# Altium schematic symbol library 436500501.SchLib: 2 symbols
Pins are listed as number, name and electrical type; pins without a type are passive.

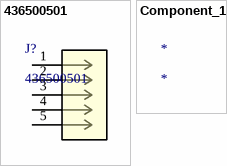
[diagram p0: symbols 436500501 to Component_1]

## 436500501
designator J?
No Description Available; Mfr_Name: Molex Connector Corporation; Copyright: Copyright (C) 2023 Ultra Librarian. All rights reserved.; Manufacturer_Part_Number: 436500501; RefDes: RefDes; Type: DEV
footprint CON_436500501_MOL
pins: 1, 2, 3, 4, 5

## Component_1
designator *